# EAGLE library part TPS5430DDAR (library TPS5430DDAR)
Texas Instruments, TPS5430DDAR Step-Down Switching Regulator 3A Adjustable, 1.22 31 V, 8-Pin SOIC Source: Datasheet <http://www.ti.com/lit/gpn/tps5430>
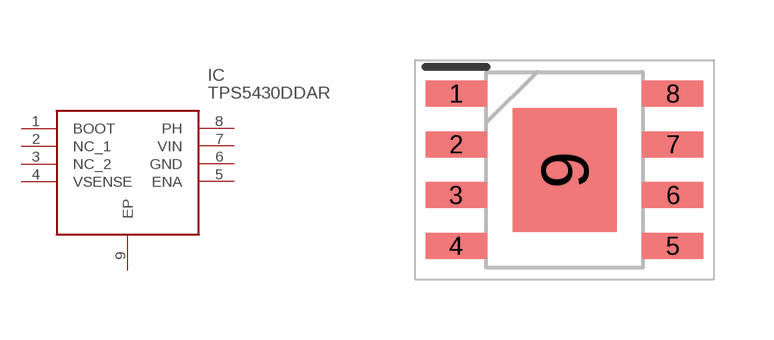
[diagram p0: symbol with the pads of SOIC127P600X170-9N; footprint SOIC127P600X170-9N]

Designator prefix IC

## TPS5430DDAR (Arrow_Part_Number: TPS5430DDAR; Arrow_Price-Stock: https://www.arrow.com/en/products/tps5430ddar/texas-instruments?region=nac; Description: Texas Instruments, TPS5430DDAR Step-Down Switching Regulator 3A Adjustable, 1.22 31 V, 8-Pin SOIC; Height: 1.7mm; Manufacturer_Name: Texas Instruments; Manufacturer_Part_Number: TPS5430DDAR)  [SOIC127P600X170-9N]
1  BOOT
2  NC_1
3  NC_2
4  VSENSE
5  ENA
6  GND
7  VIN
8  PH
9  EP

## Footprint SOIC127P600X170-9N (pad centres in mm)
DDA0008J
smd 1.525 x 0.65: 1 -2.712,1.905; 2 -2.712,0.635; 3 -2.712,-0.635; 4 -2.712,-1.905; 5 2.712,-1.905; 6 2.712,-0.635; 7 2.712,0.635; 8 2.712,1.905
smd 2.6 x 3.1: 9 0,0